# Altium footprint library Diode_SMD.PcbLib: 69 footprints (part 3 of 5)
Each footprint in its own frame and in the unit in brackets; x right, y up, seen from the top. Pads: shape width x height; smd on the part's side, far side on the other; paste and mask are expansions set on the pad; w line width, h text height; cw(c..) or ccw(c..) is an arc to the next point about the centre after c.
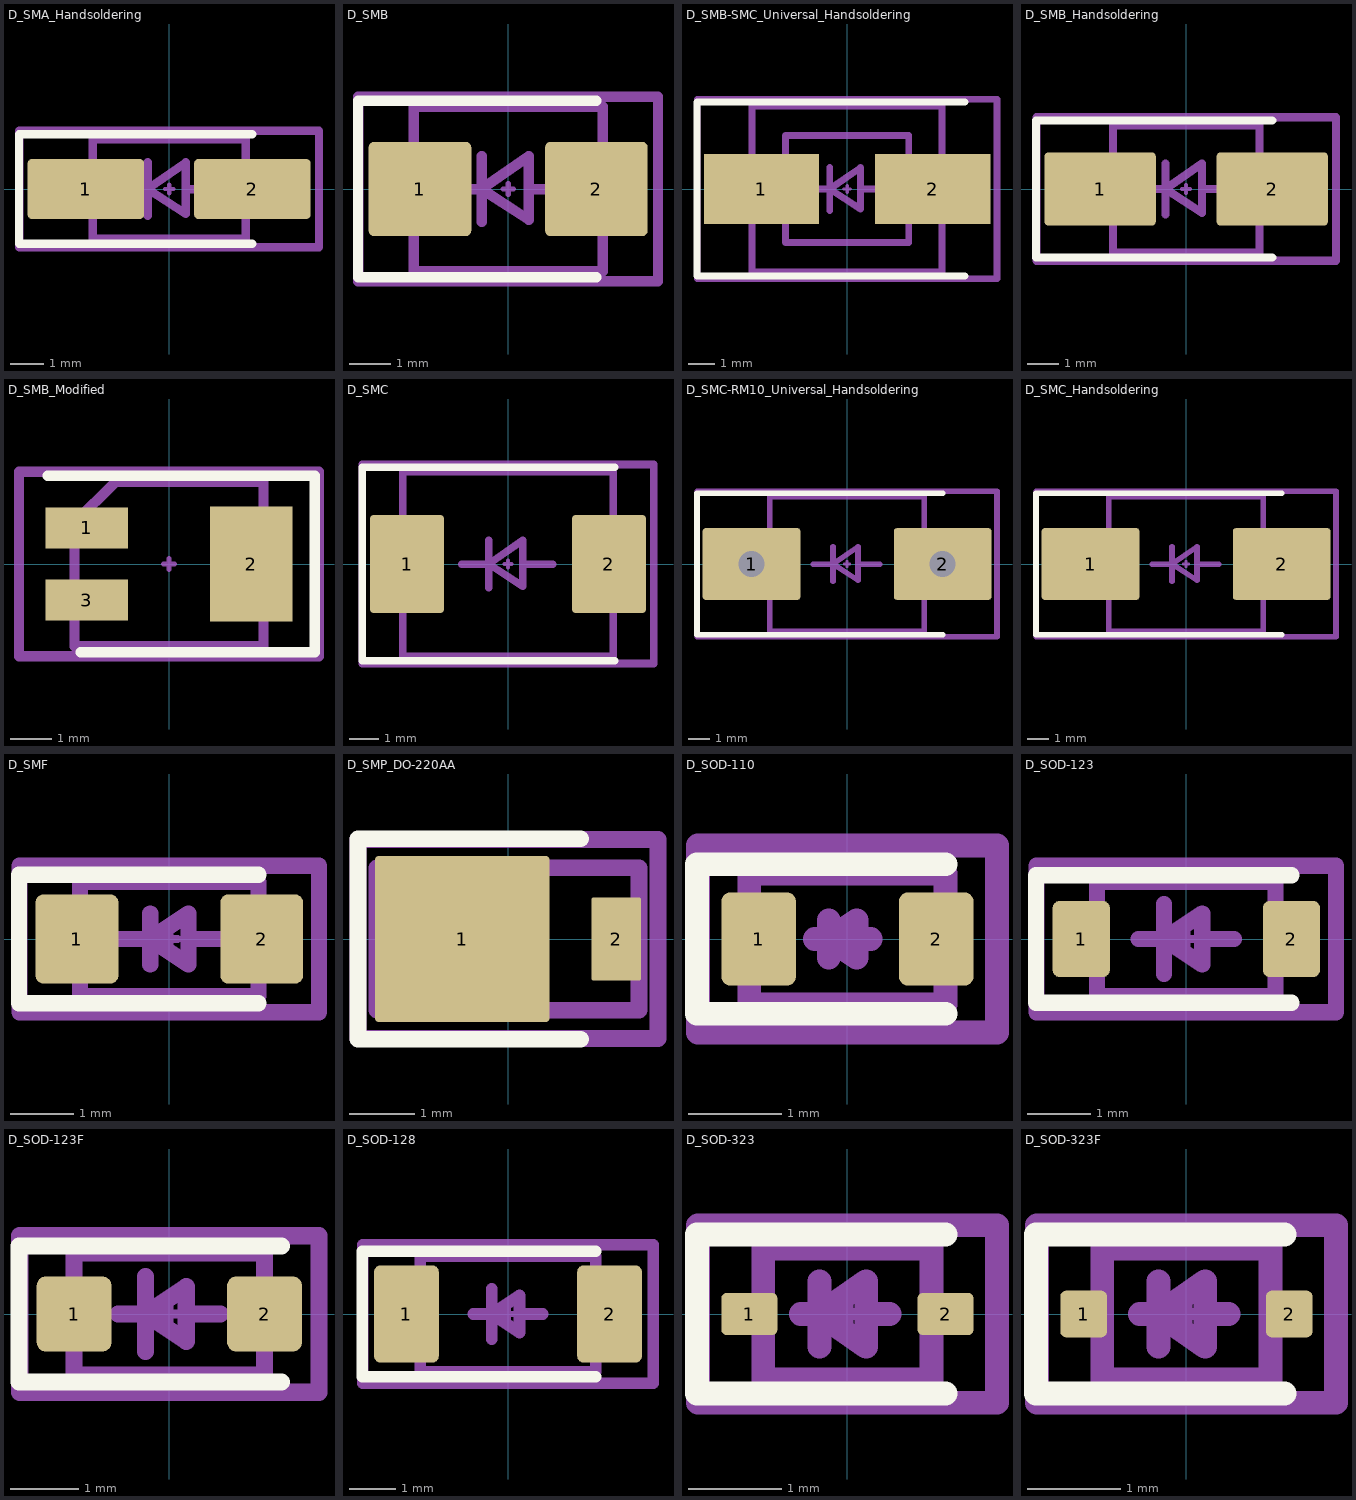
[diagram p2: the footprints below, top view; thin cyan lines are the x and y axes]

## D_SMA_Handsoldering [mm] "D_SMA_Handsoldering"
pads (2):
  rrect14% 3.5x1.8 smd: 1(-2.5,0) 2(2.5,0)
F.SilkS:
  lines w0.254: 2.5,-1.65 -4.51,-1.65 -4.51,1.65 2.5,1.65
Top Component Center:
  lines w0.127: -0.127,0 0.127,0 ; 0,-0.127 0,0.127
Top Assembly:
  lines w0.254: -1.551,-0.001 -0.649,-0.001 ; -0.649,-0.801 -0.649,0.799 ; 0.501,-0.001 1.499,-0.001 ; -0.649,-0.001 0.501,-0.75 0.501,0.799 -0.649,-0.001 ; -2.3,-1.5 2.3,-1.5 2.3,1.5 -2.3,1.5 -2.3,-1.5
Top Courtyard:
  lines w0.254: -4.5,-1.75 4.5,-1.75 4.5,1.75 -4.5,1.75 -4.5,-1.75
Top Designator:
  text ".Designator" at -3.435,-0.344 h1.52

## D_SMB [mm] "D_SMB"
pads (2):
  rrect11% 2.5x2.3 smd: 1(-2.15,0) 2(2.15,0)
F.SilkS:
  lines w0.254: 2.15,-2.15 -3.66,-2.15 -3.66,2.15 2.15,2.15
Top Component Center:
  lines w0.127: -0.127,0 0.127,0 ; 0,-0.127 0,0.127
Top Assembly:
  lines w0.254: -1.551,-0.001 -0.649,-0.001 ; -0.649,-0.801 -0.649,0.799 ; 0.501,-0.001 1.499,-0.001 ; -0.649,-0.001 0.501,-0.75 0.501,0.799 -0.649,-0.001 ; -2.3,-2 2.3,-2 2.3,2 -2.3,2 -2.3,-2
Top Courtyard:
  lines w0.254: -3.65,-2.25 3.65,-2.25 3.65,2.25 -3.65,2.25 -3.65,-2.25
Top Designator:
  text ".Designator" at -3.435,-0.344 h1.52
3D body "D_SMB.step": height 2.15, standoff 0, extent -2.65,-1.775 2.65,1.775

## D_SMB-SMC_Universal_Handsoldering [mm] "D_SMB-SMC_Universal_Handsoldering"
pads (2):
  rect 4.3x2.6 smd: 1(-3.2,0) 2(3.2,0)
F.SilkS:
  lines w0.254: 4.4,-3.25 -5.61,-3.25 -5.61,3.25 4.4,3.25
Top Component Center:
  lines w0.127: -0.127,0 0.127,0 ; 0,-0.127 0,0.127
Top Assembly:
  lines w0.254: -1.551,-0.001 -0.649,-0.001 ; -0.649,-0.801 -0.649,0.799 ; 0.501,-0.001 1.499,-0.001 ; -0.649,-0.001 0.501,0.799 0.501,-0.75 -0.649,-0.001 ; -3.55,-3.1 -3.55,3.1 3.55,3.1 3.55,-3.1 -3.55,-3.1 ; -2.3,-2 -2.3,2 2.3,2 2.3,-2 -2.3,-2
Top Courtyard:
  lines w0.254: -5.6,-3.35 -5.6,3.35 5.6,3.35 5.6,-3.35 -5.6,-3.35
Top Designator:
  text ".Designator" at -3.435,-0.344 h1.52

## D_SMB_Handsoldering [mm] "D_SMB_Handsoldering"
pads (2):
  rrect11% 3.5x2.3 smd: 1(-2.7,0) 2(2.7,0)
F.SilkS:
  lines w0.254: 2.7,-2.15 -4.71,-2.15 -4.71,2.15 2.7,2.15
Top Component Center:
  lines w0.127: -0.127,0 0.127,0 ; 0,-0.127 0,0.127
Top Assembly:
  lines w0.254: -1.551,-0.001 -0.649,-0.001 ; -0.649,-0.801 -0.649,0.799 ; 0.501,-0.001 1.499,-0.001 ; -0.649,-0.001 0.501,0.799 0.501,-0.75 -0.649,-0.001 ; -2.3,-2 -2.3,2 2.3,2 2.3,-2 -2.3,-2
Top Courtyard:
  lines w0.254: -4.7,-2.25 -4.7,2.25 4.7,2.25 4.7,-2.25 -4.7,-2.25
Top Designator:
  text ".Designator" at -3.435,-0.344 h1.52

## D_SMB_Modified [mm] "D_SMB_Modified"
pads (3):
  rect 2x1 smd: 1(-2,0.88) 3(-2,-0.88)
  rect 2x2.8 smd: 2(2,0)
F.SilkS:
  lines w0.254: -2.95,2.15 3.55,2.15 3.55,-2.15 -2.15,-2.15
Top Component Center:
  lines w0.127: -0.127,0 0.127,0 ; 0,-0.127 0,0.127
Top Assembly:
  lines w0.254: -2.3,-2 -2.3,1 -1.3,2 2.3,2 2.3,-2 -2.3,-2
Top Courtyard:
  lines w0.254: -3.65,-2.25 -3.65,2.25 3.65,2.25 3.65,-2.25 -3.65,-2.25
Top Designator:
  text ".Designator" at -3.435,-0.344 h1.52

## D_SMC [mm] "D_SMC"
pads (2):
  rrect10% 2.5x3.3 smd: 1(-3.4,0) 2(3.4,0)
F.SilkS:
  lines w0.254: 3.6,-3.25 -4.91,-3.25 -4.91,3.25 3.6,3.25
Top Component Center:
  lines w0.127: -0.127,0 0.127,0 ; 0,-0.127 0,0.127
Top Assembly:
  lines w0.254: -1.551,-0.001 -0.649,-0.001 ; -0.649,-0.801 -0.649,0.799 ; 0.501,-0.001 1.499,-0.001 ; -0.649,-0.001 0.501,0.799 0.501,-0.75 -0.649,-0.001 ; -3.55,-3.1 -3.55,3.1 3.55,3.1 3.55,-3.1 -3.55,-3.1
Top Courtyard:
  lines w0.254: -4.9,-3.35 -4.9,3.35 4.9,3.35 4.9,-3.35 -4.9,-3.35
Top Designator:
  text ".Designator" at -3.435,-0.344 h1.52
3D body "D_SMC.step": height 2.31, standoff 0, extent -4,-2.95 4,2.95

## D_SMC-RM10_Universal_Handsoldering [mm] "D_SMC-RM10_Universal_Handsoldering"
pads (2):
  rrect8% 4.5x3.3 hole 1.2: 1(-4.4,0) 2(4.4,0)
F.SilkS:
  lines w0.254: 4.4,-3.25 -6.91,-3.25 -6.91,3.25 4.4,3.25
Top Component Center:
  lines w0.127: -0.127,0 0.127,0 ; 0,-0.127 0,0.127
Top Assembly:
  lines w0.254: -1.551,-0.001 -0.649,-0.001 ; -0.649,-0.801 -0.649,0.799 ; 0.501,-0.001 1.499,-0.001 ; -0.649,-0.001 0.501,0.799 0.501,-0.75 -0.649,-0.001 ; -3.55,-3.1 -3.55,3.1 3.55,3.1 3.55,-3.1 -3.55,-3.1
Top Courtyard:
  lines w0.254: -6.9,-3.35 -6.9,3.35 6.9,3.35 6.9,-3.35 -6.9,-3.35
Top Designator:
  text ".Designator" at -3.435,-0.344 h1.52

## D_SMC_Handsoldering [mm] "D_SMC_Handsoldering"
pads (2):
  rrect8% 4.5x3.3 smd: 1(-4.4,0) 2(4.4,0)
F.SilkS:
  lines w0.254: 4.4,-3.25 -6.91,-3.25 -6.91,3.25 4.4,3.25
Top Component Center:
  lines w0.127: -0.127,0 0.127,0 ; 0,-0.127 0,0.127
Top Assembly:
  lines w0.254: -1.551,-0.001 -0.649,-0.001 ; -0.649,-0.801 -0.649,0.799 ; 0.501,-0.001 1.499,-0.001 ; -0.649,-0.001 0.501,-0.75 0.501,0.799 -0.649,-0.001 ; -3.55,-3.1 3.55,-3.1 3.55,3.1 -3.55,3.1 -3.55,-3.1
Top Courtyard:
  lines w0.254: -6.9,-3.35 6.9,-3.35 6.9,3.35 -6.9,3.35 -6.9,-3.35
Top Designator:
  text ".Designator" at -3.435,-0.344 h1.52

## D_SMF [mm] "D_SMF"
pads (2):
  rrect19% 1.3x1.4 smd: 1(-1.45,0) 2(1.45,0)
F.SilkS:
  lines w0.254: 1.4,-1.01 -2.36,-1.01 -2.36,1.01 1.4,1.01
Top Component Center:
  lines w0.127: -0.127,0 0.127,0 ; 0,-0.127 0,0.127
Top Assembly:
  lines w0.254: -0.9,0 -0.3,0 0.3,0.4 0.3,-0.4 -0.3,-0.001 ; -0.3,-0.4 -0.3,0.4 ; 0.3,0 0.9,0 ; -1.4,-0.9 -1.4,0.9 1.4,0.9 1.4,-0.9 -1.4,-0.9
Top Courtyard:
  lines w0.254: -2.35,-1.15 -2.35,1.15 2.35,1.15 2.35,-1.15 -2.35,-1.15
Top Designator:
  text ".Designator" at -2.254,-0.226 h1
3D body "D_SMF.step": height 1, standoff 0, extent -1.9,-0.9 1.9,0.9

## D_SMP_DO-220AA [mil] "D_SMP_DO-220AA"
pads (2):
  rrect5% 105.12x100 smd: 1(-27.5,0)
  rrect10% 30x50 smd: 2(65.06,0)
F.SilkS:
  lines w10: 43.7,-60.24 -90.16,-60.24 -90.16,60.24 43.7,60.24
Top Component Center:
  lines w5: -5,0 5,0 ; 0,-5 0,5
Top Assembly:
  lines w10: 77.56,-10.43 77.56,10.43 ; -78.74,-42.91 -78.74,42.91 78.74,42.91 78.74,-42.91 -78.74,-42.91
Top Courtyard:
  lines w10: -90.16,-59.84 -90.16,59.84 90.16,59.84 90.16,-59.84 -90.16,-59.84
Top Designator:
  text ".Designator" at -135.25,-13.56 h60
3D body "D_SMP_DO-220AA.step": height 45.28, standoff -0.39, extent -78.74,-42.91 78.74,42.91

## D_SOD-110 [mm] "D_SOD-110"
pads (2):
  rrect25% 0.8x1 smd: 1(-0.95,0) 2(0.95,0)
F.SilkS:
  lines w0.254: 1.05,-0.8 -1.61,-0.8 -1.61,0.8 1.05,0.8
Top Component Center:
  lines w0.127: -0.127,0 0.127,0 ; 0,-0.127 0,0.127
Top Assembly:
  lines w0.254: -0.35,0 -0.2,0 ; -0.2,-0.2 -0.2,0.2 ; 0.1,0 0.25,0 ; -0.2,0 0.1,-0.2 0.1,0.2 -0.2,0 ; -1.05,-0.7 -1.05,0.7 1.05,0.7 1.05,-0.7 -1.05,-0.7
Top Courtyard:
  lines w0.254: -1.6,-1 -1.6,1 1.6,1 1.6,-1 -1.6,-1
Top Designator:
  text ".Designator" at -1.69,-0.169 h0.75
3D body "D_SOD-110.step": height 1.8, standoff 0, extent -1,-0.575 1,0.575

## D_SOD-123 [mm] "D_SOD-123"
pads (2):
  rrect25% 0.9x1.2 smd: 1(-1.65,0) 2(1.65,0)
F.SilkS:
  lines w0.254: 1.65,-1 -2.36,-1 -2.36,1 1.65,1
Top Component Center:
  lines w0.127: -0.127,0 0.127,0 ; 0,-0.127 0,0.127
Top Assembly:
  lines w0.254: -0.75,0 -0.35,0 ; -0.35,-0.55 -0.35,0 ; -0.35,0.55 -0.35,0 ; 0.25,0 0.75,0 ; -0.35,0 0.25,-0.4 0.25,0.4 -0.35,0 ; -1.4,-0.9 1.4,-0.9 1.4,0.9 -1.4,0.9 -1.4,-0.9
Top Courtyard:
  lines w0.254: -2.35,-1.15 2.35,-1.15 2.35,1.15 -2.35,1.15 -2.35,-1.15
Top Designator:
  text ".Designator" at -2.254,-0.226 h1
3D body "D_SOD-123.step": height 1.25, standoff 0, extent -1.9,-0.8 1.9,0.8

## D_SOD-123F [mm] "D_SOD-123F"
pads (2):
  rrect23% 1.1x1.1 smd: 1(-1.4,0) 2(1.4,0)
F.SilkS:
  lines w0.254: 1.65,-1 -2.21,-1 -2.21,1 1.65,1
Top Component Center:
  lines w0.127: -0.127,0 0.127,0 ; 0,-0.127 0,0.127
Top Assembly:
  lines w0.254: -0.75,0 -0.35,0 ; -0.35,-0.55 -0.35,0 ; -0.35,0.55 -0.35,0 ; 0.25,0 0.75,0 ; -0.35,0 0.25,-0.4 0.25,0.4 -0.35,0 ; -1.4,-0.9 1.4,-0.9 1.4,0.9 -1.4,0.9 -1.4,-0.9
Top Courtyard:
  lines w0.254: -2.2,-1.15 2.2,-1.15 2.2,1.15 -2.2,1.15 -2.2,-1.15
Top Designator:
  text ".Designator" at -2.254,-0.226 h1
3D body "D_SOD-123F.step": height 1.1, standoff 0, extent -1.75,-0.8 1.75,0.8

## D_SOD-128 [mm] "D_SOD-128"
pads (2):
  rrect18% 1.4x2.1 smd: 1(-2.2,0) 2(2.2,0)
F.SilkS:
  lines w0.254: 1.9,-1.36 -3.16,-1.36 -3.16,1.36 1.9,1.36
Top Component Center:
  lines w0.127: -0.127,0 0.127,0 ; 0,-0.127 0,0.127
Top Assembly:
  lines w0.254: -0.75,0 -0.35,0 ; -0.35,-0.55 -0.35,0 ; -0.35,0.55 -0.35,0 ; 0.25,0 0.75,0 ; -0.35,0 0.25,-0.4 0.25,0.4 -0.35,0 ; -1.9,-1.25 1.9,-1.25 1.9,1.25 -1.9,1.25 -1.9,-1.25
Top Courtyard:
  lines w0.254: -3.15,-1.5 3.15,-1.5 3.15,1.5 -3.15,1.5 -3.15,-1.5
Top Designator:
  text ".Designator" at -3.38,-0.339 h1.5
3D body "D_SOD-128.step": height 1.01, standoff 0, extent -2.35,-1.25 2.35,1.25

## D_SOD-323 [mm] "D_SOD-323"
pads (2):
  rrect25% 0.6x0.45 smd: 1(-1.05,0) 2(1.05,0)
F.SilkS:
  lines w0.254: 1.05,-0.85 -1.61,-0.85 -1.61,0.85 1.05,0.85
Top Component Center:
  lines w0.127: -0.127,0 0.127,0 ; 0,-0.127 0,0.127
Top Assembly:
  lines w0.254: -0.5,0 -0.3,0 ; -0.3,-0.35 -0.3,0.35 ; 0.2,0 0.45,0 ; -0.3,0 0.2,-0.35 0.2,0.35 -0.3,0 ; -0.9,-0.7 0.9,-0.7 0.9,0.7 -0.9,0.7 -0.9,-0.7
Top Courtyard:
  lines w0.254: -1.6,-0.95 1.6,-0.95 1.6,0.95 -1.6,0.95 -1.6,-0.95
Top Designator:
  text ".Designator" at -1.69,-0.169 h0.75
3D body "D_SOD-323.step": height 1.1, standoff 0, extent -1.25,-0.625 1.25,0.625

## D_SOD-323F [mm] "D_SOD-323F"
pads (2):
  rrect25% 0.5x0.5 smd: 1(-1.1,0) 2(1.1,0)
F.SilkS:
  lines w0.254: 1.05,-0.85 -1.61,-0.85 -1.61,0.85 1.05,0.85
Top Component Center:
  lines w0.127: -0.127,0 0.127,0 ; 0,-0.127 0,0.127
Top Assembly:
  lines w0.254: -0.5,0 -0.3,0 ; -0.3,-0.35 -0.3,0.35 ; 0.2,0 0.45,0 ; -0.3,0 0.2,-0.35 0.2,0.35 -0.3,0 ; -0.9,-0.7 0.9,-0.7 0.9,0.7 -0.9,0.7 -0.9,-0.7
Top Courtyard:
  lines w0.254: -1.6,-0.95 1.6,-0.95 1.6,0.95 -1.6,0.95 -1.6,-0.95
Top Designator:
  text ".Designator" at -1.69,-0.169 h0.75
3D body "D_SOD-323F.step": height 0.73, standoff 0, extent -1.25,-0.625 1.25,0.625